# Altium footprint library 封装.PcbLib: 17 footprints (part 1 of 2)
Each footprint in its own frame and in the unit in brackets; x right, y up, seen from the top. Pads: shape width x height; smd on the part's side, far side on the other; paste and mask are expansions set on the pad; w line width, h text height; cw(c..) or ccw(c..) is an arc to the next point about the centre after c.
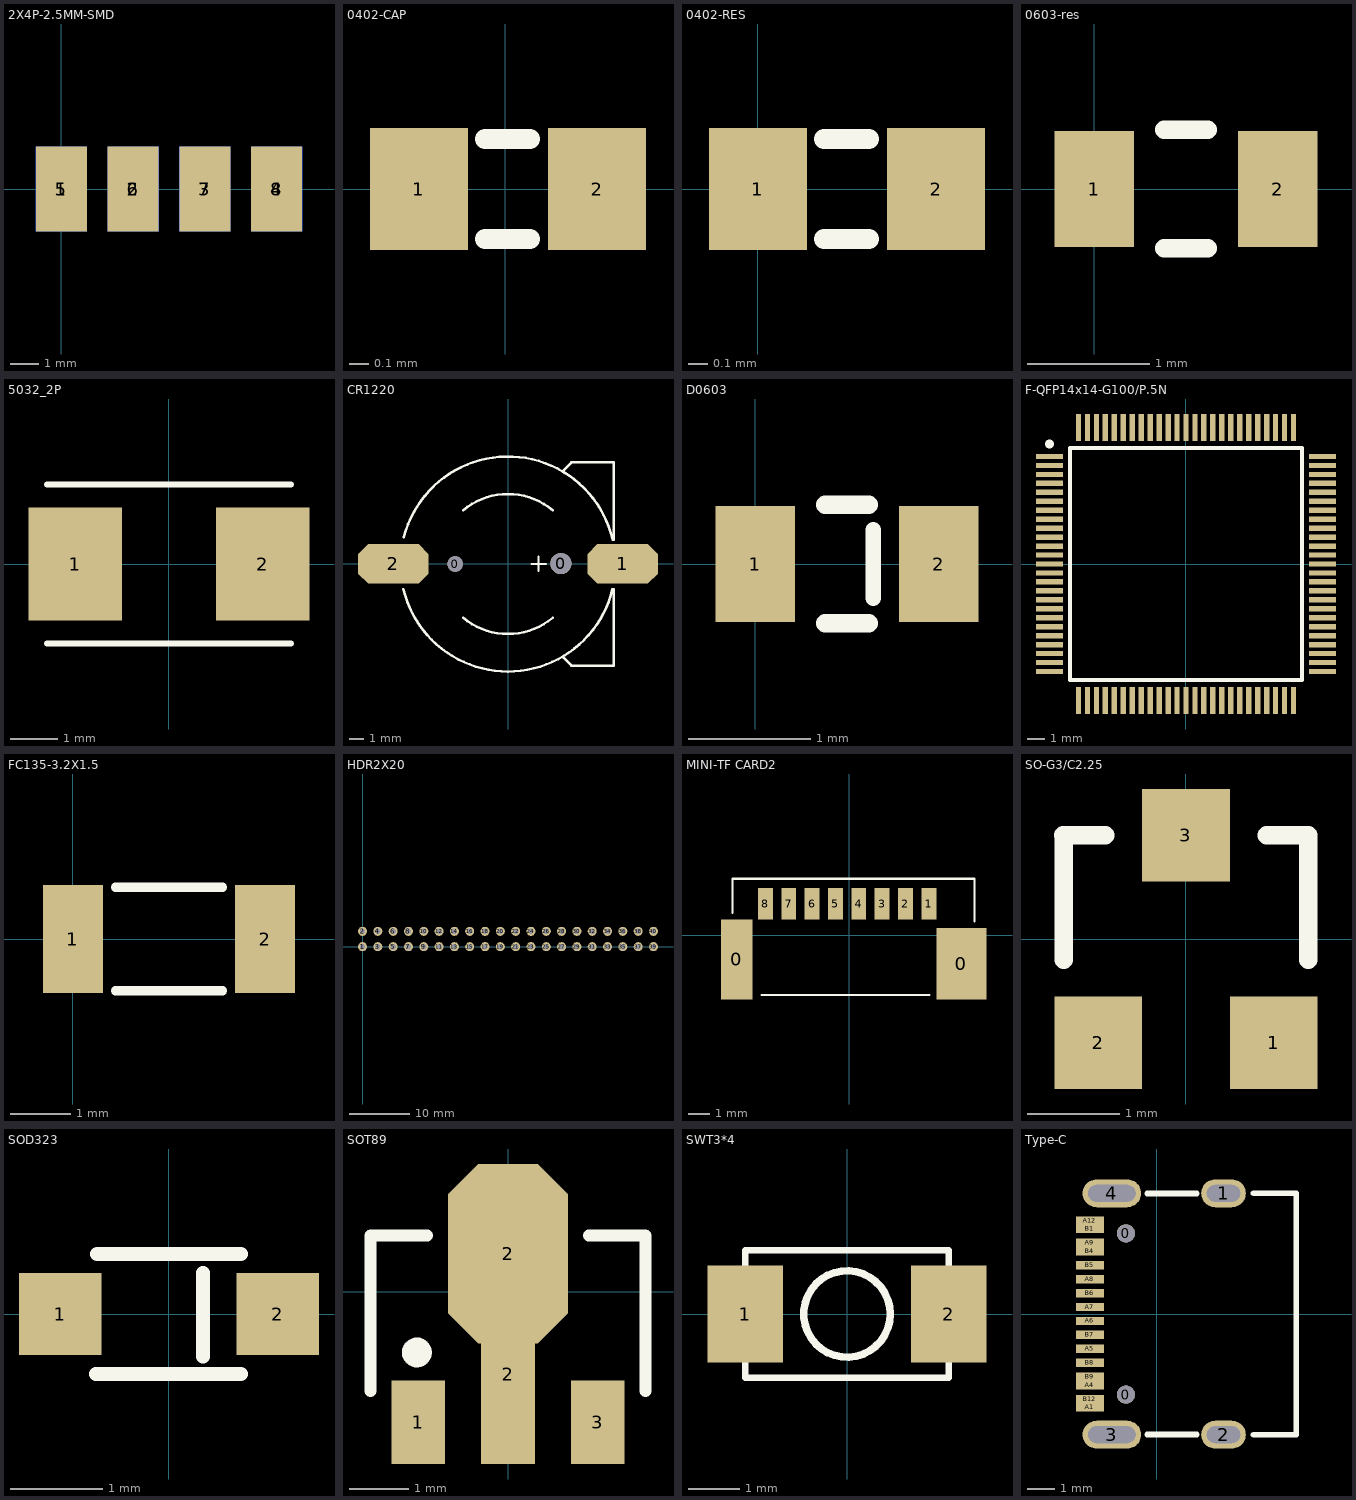
[diagram p0: the footprints below, top view; thin cyan lines are the x and y axes]

## 2X4P-2.5MM-SMD [mm]
pads (8):
  rect 1.8x3 smd: 1(0,0) 2(2.54,0) 3(5.08,0) 4(7.62,0)
  rect 1.8x3 smd far side: 5(0,0) 6(2.54,0) 7(5.08,0) 8(7.62,0)

## 0402-CAP [mm] "Chip Capacitor, 2-Leads, Body 1.00x0.50mm, IPC Medium Density"
height 0.5
pads (2):
  rect 0.5x0.62 smd: 1(-0.44,0) 2(0.47,0)
Top Overlay:
  lines w0.102: -0.102,-0.254 0.127,-0.254 ; -0.102,0.254 0.127,0.254
3D body "CAPCP1005X05N.step": height 0.5, standoff 0, extent -0.525,-0.275 0.525,0.275

## 0402-RES [mm] "Chip Resistor, 2-Leads, Body 1.00x0.50mm, IPC Medium Density"
height 0.5
pads (2):
  rect 0.5x0.62 smd: 1(0,0) 2(0.91,0)
Top Overlay:
  lines w0.102: 0.338,-0.254 0.567,-0.254 ; 0.338,0.254 0.567,0.254
3D body "RESC1005X05N.step": height 0.5, standoff 0, extent -0.072,-0.275 0.978,0.275

## 0603-res [mm]
height 0.35
pads (2):
  rect 0.65x0.95 smd: 1(0,0) 2(1.5,0)
Top Overlay:
  lines w0.152: 0.572,-0.483 0.928,-0.483 ; 0.572,0.483 0.928,0.483
3D body "0603-res.step": height 0.35, standoff 0, extent -0.125,-0.475 1.625,0.475

## 5032_2P [mm]
pads (2):
  rect 2x2.4 smd: 1(-2,0) 2(2,0)
Top Overlay:
  lines w0.127: -2.6,-1.7 2.6,-1.7 ; -2.6,1.7 2.6,1.7

## CR1220 [mm]
pads (4):
  round 1.1 hole 1.1: 0(-3.754,-0.012)
  round 1.5 hole 1.5: 0(3.746,0.012)
  oct 5x2.8 smd: 1(8.132,-0.01) 2(-8.132,-0.01)
Top Overlay:
  lines w0.152: 1.655,-0.01 2.671,-0.01 ; 2.163,-0.518 2.163,0.498
  lines w0.178: -7.411,-1.8 ccw(c-0.004,-0.012) -0.004,-7.632 ccw(c-0.004,-0.012) 7.404,-1.796 ; -7.38,1.9 cw(c-0.004,-0.012) 7.417,1.72 ; -3.176,-3.825 ccw(c-0.004,-0.012) 3.165,-3.827 ; -3.176,3.8 cw(c-0.004,-0.012) 3.171,3.797 ; 3.896,-6.613 4.496,-7.213 7.496,-7.213 7.496,-1.796 ; 3.921,6.613 4.496,7.187 7.496,7.187 7.496,1.72

## D0603 [mm]
pads (2):
  rect 0.65x0.95 smd: 1(0,0) 2(1.5,0)
Top Overlay:
  lines w0.127: 0.965,-0.279 0.965,0.279
  lines w0.152: 0.572,-0.483 0.928,-0.483 ; 0.572,0.483 0.928,0.483
3D body "0603-res.step": height 0.35, standoff 0, extent -0.125,-0.475 1.625,0.475

## F-QFP14x14-G100/P.5N [mm] "QFP; 100 Leads; Body 14 x 14 mm; Pitch 0.5 mm"
height 1.7
pads (100):
  rect 1.5x0.3 smd: 1(-7.625,6) 2(-7.625,5.5) 3(-7.625,5) 4(-7.625,4.5) 5(-7.625,4) 6(-7.625,3.5) 7(-7.625,3) 8(-7.625,2.5) 9(-7.625,2) 10(-7.625,1.5) 11(-7.625,1) 12(-7.625,0.5) 13(-7.625,0) 14(-7.625,-0.5) 15(-7.625,-1) 16(-7.625,-1.5) 17(-7.625,-2) 18(-7.625,-2.5) 19(-7.625,-3) 20(-7.625,-3.5) 21(-7.625,-4) 22(-7.625,-4.5) 23(-7.625,-5) 24(-7.625,-5.5) 25(-7.625,-6) 51(7.625,-6) 52(7.625,-5.5) 53(7.625,-5) 54(7.625,-4.5) 55(7.625,-4) 56(7.625,-3.5) 57(7.625,-3) 58(7.625,-2.5) 59(7.625,-2) 60(7.625,-1.5) 61(7.625,-1) 62(7.625,-0.5) 63(7.625,0) 64(7.625,0.5) 65(7.625,1) 66(7.625,1.5) 67(7.625,2) 68(7.625,2.5) 69(7.625,3) 70(7.625,3.5) 71(7.625,4) 72(7.625,4.5) 73(7.625,5) 74(7.625,5.5) 75(7.625,6)
  rect 0.3x1.5 smd: 26(-6,-7.625) 27(-5.5,-7.625) 28(-5,-7.625) 29(-4.5,-7.625) 30(-4,-7.625) 31(-3.5,-7.625) 32(-3,-7.625) 33(-2.5,-7.625) 34(-2,-7.625) 35(-1.5,-7.625) 36(-1,-7.625) 37(-0.5,-7.625) 38(0,-7.625) 39(0.5,-7.625) 40(1,-7.625) 41(1.5,-7.625) 42(2,-7.625) 43(2.5,-7.625) 44(3,-7.625) 45(3.5,-7.625) 46(4,-7.625) 47(4.5,-7.625) 48(5,-7.625) 49(5.5,-7.625) 50(6,-7.625) 76(6,7.625) 77(5.5,7.625) 78(5,7.625) 79(4.5,7.625) 80(4,7.625) 81(3.5,7.625) 82(3,7.625) 83(2.5,7.625) 84(2,7.625) 85(1.5,7.625) 86(1,7.625) 87(0.5,7.625) 88(0,7.625) 89(-0.5,7.625) 90(-1,7.625) 91(-1.5,7.625) 92(-2,7.625) 93(-2.5,7.625) 94(-3,7.625) 95(-3.5,7.625) 96(-4,7.625) 97(-4.5,7.625) 98(-5,7.625) 99(-5.5,7.625) 100(-6,7.625)
Top Overlay:
  circle w0.25: c-7.625,6.7 r0.125
  lines w0.2: -6.475,-6.475 6.475,-6.475 6.475,6.475 -6.475,6.475 -6.475,-6.475

## FC135-3.2X1.5 [mm]
pads (2):
  rect 1x1.8 smd: 1(0,0) 2(3.2,0)
Top Overlay:
  lines w0.152: 0.711,-0.864 2.489,-0.864 ; 0.711,0.864 2.489,0.864

## HDR2X20 [mm] "Connector; Header; 20x2 Position"
pads (40):
  round 1.5 hole 0.9: 1(0,0) 2(0,2.54) 3(2.54,0) 4(2.54,2.54) 5(5.08,0) 6(5.08,2.54) 7(7.62,0) 8(7.62,2.54) 9(10.16,0) 10(10.16,2.54) 11(12.7,0) 12(12.7,2.54) 13(15.24,0) 14(15.24,2.54) 15(17.78,0) 16(17.78,2.54) 17(20.32,0) 18(20.32,2.54) 19(22.86,0) 20(22.86,2.54) 21(25.4,0) 22(25.4,2.54) 23(27.94,0) 24(27.94,2.54) 25(30.48,0) 26(30.48,2.54) 27(33.02,0) 28(33.02,2.54) 29(35.56,0) 30(35.56,2.54) 31(38.1,0) 32(38.1,2.54) 33(40.64,0) 34(40.64,2.54) 35(43.18,0) 36(43.18,2.54) 37(45.72,0) 38(45.72,2.54) 39(48.26,0) 40(48.26,2.54)

## MINI-TF CARD2 [mm]
pads (10):
  rect 1.5x3.75 smd: 0(-5.29,-1.15)
  rect 2.35x3.35 smd: 0(5.29,-1.35)
  rect 0.7x1.5 smd: 1(3.755,1.475) 2(2.655,1.475) 3(1.555,1.475) 4(0.455,1.475) 5(-0.645,1.475) 6(-1.745,1.475) 7(-2.845,1.475) 8(-3.945,1.475)
Top Overlay:
  lines w0.1: -5.487,1.05 -5.487,2.655 5.907,2.655 5.907,0.65 ; -4.115,-2.823 3.785,-2.823

## SO-G3/C2.25 [mm] "SOT-23; 3 Leads; Body 3.0 x 2.5 mm, inc. leads (LxW max)"
height 1.2
pads (3):
  rect 0.95x1 smd: 1(0.95,-1.125) 2(-0.95,-1.125) 3(0,1.125)
Top Overlay:
  lines w0.2: -1.328,1.125 -0.875,1.125 ; -1.325,-0.225 -1.325,1.125 ; 0.875,1.125 1.325,1.125 1.325,-0.225

## SOD323 [mil] "SODFL, 2-Leads, Body 1.30x2.60mm, IPC Medium Density"
height 39.37
pads (2):
  rect 35x35 smd: 1(-46.26,0) 2(46.26,0)
Top Overlay:
  lines w6: -31,-25.5 30.5,-25.5 ; -30.5,25.5 30.5,25.5 ; 14.44,-18 14.44,17.5
3D body "SOD323.step": height 39.37, standoff 0, extent -51.18,-27.56 51.18,27.56

## SOT89 [mm] "SOT89, 3-Leads, Body 4.50x2.45mm, Pitch 1.50mm, Lead Span 4.1mm, IPC Medium Density"
height 1.6
pads (4):
  rect 0.9x1.4 smd: 1(-1.5,-2.181) 3(1.5,-2.181)
  rect 0.9x3 smd: 2(0,-1.381)
  oct 2x3 smd: 2(0,0.635)
Top Overlay:
  circle w0.25: c-1.524,-1.016 r0.125
  lines w0.2: -2.3,-1.659 -2.3,0.941 -1.35,0.941 ; 1.35,0.941 2.3,0.941 2.3,-1.659
Mechanical 13:
  lines w0.1: -2.3,-1.659 -2.3,0.941 ; 2.3,-1.659 2.3,0.941
3D body "SOT89-150P409X160-3N.step": height 1.6, standoff 0, extent -2.3,-2.581 2.3,1.469

## SWT3*4 [mm]
pads (2):
  rect 1.48x1.9 smd: 1(-2,0) 2(2,0)
Top Overlay:
  circle w0.15: c0,0 r0.85
  lines w0.127: -2,-1.25 2,-1.25 2,1.25 -2,1.25 -2,-1.25

## Type-C [mm]
pads (22):
  round 0.65 hole 0.65: 0(-1.105,-2.89) 0(-1.105,2.89)
  oval 1.6x1 hole 0.6 slot 1.2 at 0 deg: 1(2.395,4.325) 2(2.395,-4.325)
  oval 2.1x1 hole 0.6 slot 1.7 at 0 deg: 3(-1.605,-4.325) 4(-1.605,4.325)
  rect 1x0.3 smd: A1(-2.395,-3.35) A4(-2.395,-2.55) A5(-2.395,-1.25) A6(-2.395,-0.25) A7(-2.395,0.25) A8(-2.395,1.25) A9(-2.395,2.55) A12(-2.395,3.35) B1(-2.395,3.05) B4(-2.395,2.25) B5(-2.395,1.75) B6(-2.395,0.75) B7(-2.395,-0.75) B8(-2.395,-1.75) B9(-2.395,-2.25) B12(-2.395,-3.05)
Top Overlay:
  lines w0.203: -0.343,-4.318 1.435,-4.318 ; -0.343,4.318 1.435,4.318 ; 3.467,-4.325 4.995,-4.325 4.995,4.325 3.467,4.325